# EAGLE library part QUECTEL-GC10 (library X893)
GC10
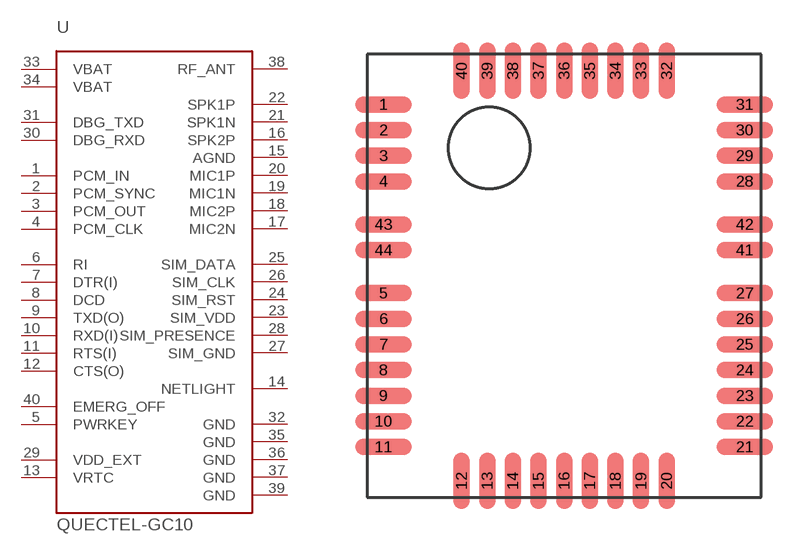
[diagram p219: symbol with the pads of QUECTEL-GC10; footprint QUECTEL-GC10]

Designator prefix U

## QUECTEL-GC10  [QUECTEL-GC10]
1  PCM_IN  in
2  PCM_SYNC  out
3  PCM_OUT  out
4  PCM_CLK  out
5  PWRKEY  in
6  RI  out
7  DTR(I)  in
8  DCD  out
9  TXD(O)  out
10  RXD(I)  in
11  RTS(I)  in
12  CTS(O)  out
13  VRTC  pas
14  NETLIGHT  out
15  AGND  pas
16  SPK2P  out
17  MIC2N  in
18  MIC2P  in
19  MIC1N  in
20  MIC1P  in
21  SPK1N  out
22  SPK1P  out
23  SIM_VDD  in
24  SIM_RST  out
25  SIM_DATA
26  SIM_CLK  out
27  SIM_GND  in
28  SIM_PRESENCE  in
29  VDD_EXT  out
30  DBG_RXD  in
31  DBG_TXD  out
32  GND  pwr
33  VBAT  pas
34  VBAT  pas
35  GND  pwr
36  GND  pwr
37  GND  pwr
38  RF_ANT  pas
39  GND  pwr
40  EMERG_OFF  in
41  RSV  nc
42  RSV  nc
43  RSV  nc
44  RSV  nc

## Footprint QUECTEL-GC10 (pad centres in mm)
GC10
smd 2.4 x 0.7: 1 -7.75,7.35; 2 -7.75,6.25; 3 -7.75,5.15; 4 -7.75,4.05; 5 -7.75,-0.75; 6 -7.75,-1.85; 7 -7.75,-2.95; 8 -7.75,-4.05; 9 -7.75,-5.15; 10 -7.75,-6.25; 11 -7.75,-7.35; 21 7.75,-7.35; 22 7.75,-6.25; 23 7.75,-5.15; 24 7.75,-4.05; 25 7.75,-2.95; 26 7.75,-1.85; 27 7.75,-0.75; 28 7.75,4.05; 29 7.75,5.15; 30 7.75,6.25; 31 7.75,7.35; 41 7.75,1.1; 42 7.75,2.2; 43 -7.75,2.2; 44 -7.75,1.1
smd 0.7 x 2.4: 12 -4.4,-8.8; 13 -3.3,-8.8; 14 -2.2,-8.8; 15 -1.1,-8.8; 16 0,-8.8; 17 1.1,-8.8; 18 2.2,-8.8; 19 3.3,-8.8; 20 4.4,-8.8; 32 4.4,8.8; 33 3.3,8.8; 34 2.2,8.8; 35 1.1,8.8; 36 0,8.8; 37 -1.1,8.8; 38 -2.2,8.8; 39 -3.3,8.8; 40 -4.4,8.8